# Altium schematic symbol library SKY13418-485LF.SchLib: 1 symbol
Pins are listed as number, name and electrical type; pins without a type are passive.

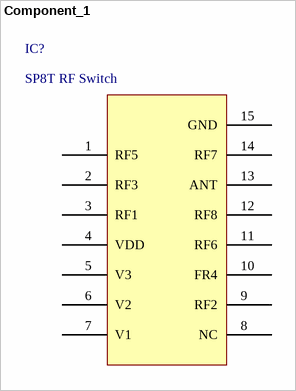
[diagram p0: symbol Component_1]

## Component_1
designator IC?, comment SP8T RF Switch
footprint PCBComponent_1
pins: 1 RF5, 2 RF3, 3 RF1, 4 VDD, 5 V3, 6 V2, 7 V1, 8 NC, 9 RF2, 10 FR4, 11 RF6, 12 RF8, 13 ANT, 14 RF7, 15 GND